# Altium footprint library AUR9811D.PcbLib: 1 footprints
Each footprint in its own frame and in the unit in brackets; x right, y up, seen from the top. Pads: shape width x height; smd on the part's side, far side on the other; paste and mask are expansions set on the pad; w line width, h text height; cw(c..) or ccw(c..) is an arc to the next point about the centre after c.
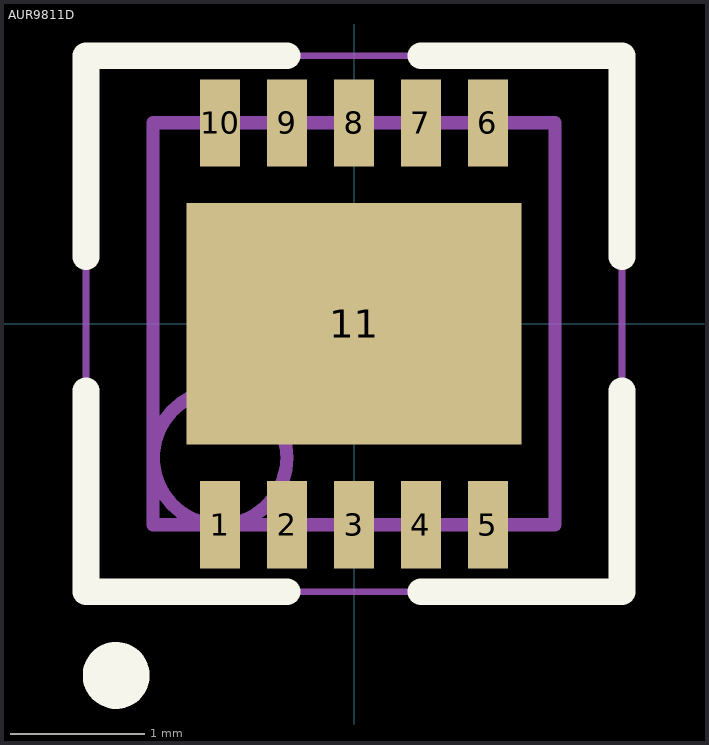
[diagram p0: the footprint, top view; thin cyan lines are the x and y axes]

## AUR9811D [mm] "PQFN, 10-Leads, Body 4.00x4.00mm"
height 1
pads (11):
  rect 0.3x0.65 smd: 1(-1,-1.5) 2(-0.5,-1.5) 3(0,-1.5) 4(0.5,-1.5) 5(1,-1.5) 6(1,1.5) 7(0.5,1.5) 8(0,1.5) 9(-0.5,1.5) 10(-1,1.5)
  rect 2.5x1.8 smd: 11(0,0)
Top Overlay:
  circle w0.25: c-1.775,-2.625 r0.125
  lines w0.2: -2,-0.5 -2,-2 -0.5,-2 ; -2,0.5 -2,2 -0.5,2 ; 0.5,-2 2,-2 2,-0.5 ; 0.5,2 2,2 2,0.5
Mechanical 13:
  circle w0.1: c-1,-1 r0.5
  lines w0.1: -1.5,-1.5 -1.5,1.5 1.5,1.5 1.5,-1.5 -1.5,-1.5
Mechanical 15:
  lines w0.05: -2,-2 -2,2 2,2 2,-2 -2,-2
  lines w0.1: -0.5,0 0.5,0 ; 0,-0.5 0,0.5
3D body: height 0.8, standoff 0, extent -1.5,-1.5 1.5,1.5